# EAGLE library part M25P16 (library IC)
ST Micro M25P16 16Mbit Serial Flash Memory
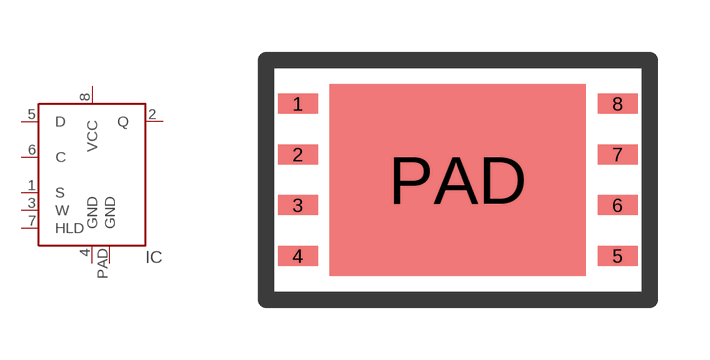
[diagram p78: symbol with the pads of MLP8; footprint MLP8]

Designator prefix IC

## M25P16-ME  [MLP8]
1  S
2  Q  out
3  W
4  GND  pwr
5  D  in
6  C
7  HLD
8  VCC  pwr
PAD  GND  pwr

## Footprint MLP8 (pad centres in mm)
MLP8 8x6mm package
smd 1 x 0.5: 1 -4,1.905; 2 -4,0.635; 3 -4,-0.635; 4 -4,-1.905; 5 4,-1.905; 6 4,-0.635; 7 4,0.635; 8 4,1.905
smd 6.4 x 4.8: PAD 0,0